# Altium schematic symbol library 08055A300JAT2A.SchLib: 1 symbol
Pins are listed as number, name and electrical type; pins without a type are passive.

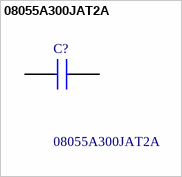
[diagram p0: symbol 08055A300JAT2A]

## 08055A300JAT2A
designator C?
Multilayer Ceramic Capacitors MLCC - SMD/SMT 50V 30pF C0G 0805 5%; Manufacturer_Name: Kyocera AVX; Geometry.Height: 0.94mm; Mouser Part Number: 581-08055A300J; Mouser Price/Stock: https://www.mouser.com/Search/Refine.aspx?Keyword=581-08055A300J; Manufacturer_Part_Number: 08055A300JAT2A; Datasheet Link: https://componentsearchengine.com/Datasheets/1/08055A300JAT2A.pdf
footprint CAPC2012X94N
pins: 1, 2